# Altium footprint library backup-connector.PcbLib: 1 footprints
Each footprint in its own frame and in the unit in brackets; x right, y up, seen from the top. Pads: shape width x height; smd on the part's side, far side on the other; paste and mask are expansions set on the pad; w line width, h text height; cw(c..) or ccw(c..) is an arc to the next point about the centre after c.
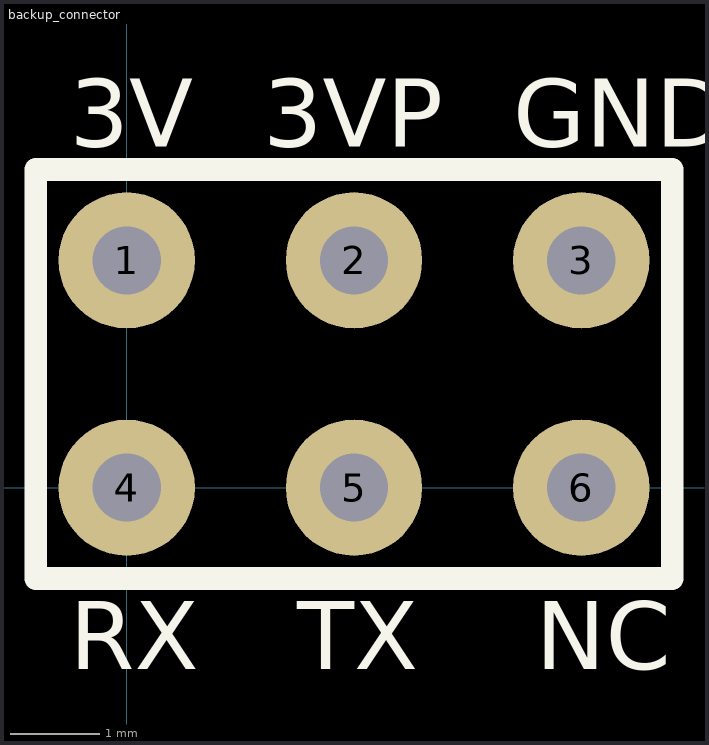
[diagram p0: the footprint, top view; thin cyan lines are the x and y axes]

## backup_connector [mil]
pads (6):
  round 60 hole 30: 1(0,100) 2(100,100) 3(200,100) 4(0,0) 5(100,0) 6(200,0)
Top Layer:
  text "K" at 426.84,409.73 h103.61
  text "0" at 384.11,409.73 h103.61
  text "0" at 341.39,409.73 h103.61
  text "1" at 298.66,409.73 h103.61
  text "2" at 352.07,516.54 h103.61
  text "R" at 298.66,516.54 h103.61
  text "2" at 373.45,356.32 h103.61
Top Overlay:
  lines w10: -40,-40 240,-40 240,140 -40,140 -40,-40
  text "NC" at 180,-80 h30
  text "TX" at 75,-80 h30
  text "RX" at -25,-80 h30
  text "GND" at 170,150 h30
  text "3VP" at 60,150 h30
  text "3V" at -25,150 h30